# Altium footprint library Resistors.PcbLib: 3 footprints
Each footprint in its own frame and in the unit in brackets; x right, y up, seen from the top. Pads: shape width x height; smd on the part's side, far side on the other; paste and mask are expansions set on the pad; w line width, h text height; cw(c..) or ccw(c..) is an arc to the next point about the centre after c.
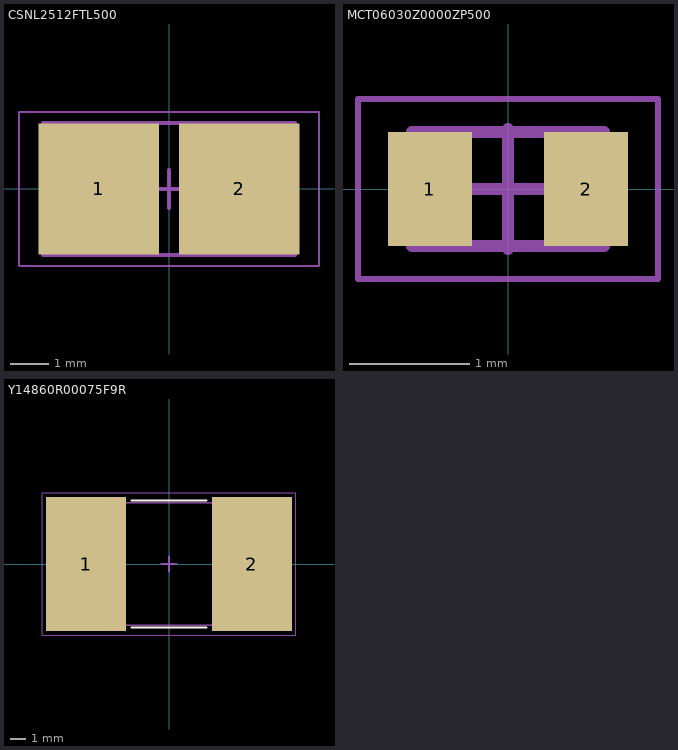
[diagram p0: the footprints below, top view; thin cyan lines are the x and y axes]

## CSNL2512FTL500 [mm] "0.5 mOhms ±1% 3W Chip Resistor 2512 (6332 Metric) Current Sense, Moisture Resistant Metal Element"
height 1.45
pads (2):
  rect 3.13x3.4 smd mask+0.07: 1(-1.825,0) 2(1.825,0)
Top Assembly:
  lines w0.1: -3.275,-1.715 -3.275,1.715 3.275,1.715 3.275,-1.715 -3.275,-1.715
  text ".Designator" at -2.252,-0.226 h1
Top Courtyard:
  lines w0.05: -3.9,-2 -3.9,2 3.9,2 3.9,-2 -3.9,-2
  lines w0.1: -0.5,0 0.5,0 ; 0,-0.5 0,0.5
3D body "RESC6432X14N.step": height 1.45, standoff 0, extent -3.275,-1.715 3.275,1.715

## MCT06030Z0000ZP500 [mm] "0 Ohms Jumper 0.1W, 1/10W Chip Resistor 0603 (1608 Metric) Anti-Sulfur Thin Film"
height 0.55
pads (2):
  rect 0.7x0.95 smd mask+0.07: 1(-0.65,0) 2(0.65,0)
Top Assembly:
  lines w0.1: -0.8,-0.475 -0.8,0.475 0.8,0.475 0.8,-0.475 -0.8,-0.475
  text ".Designator" at -0.674,-0.068 h0.3
Top Courtyard:
  lines w0.05: -1.25,-0.75 -1.25,0.75 1.25,0.75 1.25,-0.75 -1.25,-0.75
  lines w0.1: -0.5,0 0.5,0 ; 0,-0.5 0,0.5
3D body "RESC1608X06N.step": height 0.55, standoff 0, extent -0.8,-0.475 0.8,0.475

## Y14860R00075F9R [mm] "0.75 mOhms ±1% 10W Chip Resistor Nonstandard Automotive AEC-Q200, Current Sense, Non-Inductive Metal Element"
height 1.11
pads (2):
  rect 5.2x8.75 smd mask+0.05: 1(-5.397,0) 2(5.397,0)
Top Overlay:
  lines w0.127: -2.434,-4.127 2.434,-4.127 ; -2.434,4.127 2.434,4.127
Top Assembly:
  lines w0.1: -3.15,-4 -3.15,4 ; -3.15,-4 -7.645,-4 -7.645,4 -3.15,4 ; -3.15,-4 3.15,-4 ; -3.15,-4 -3.15,4 ; -3.15,4 3.15,4 ; 3.15,-4 3.15,4 ; 3.15,-4 7.645,-4 7.645,4 3.15,4 ; 3.15,-4 3.15,4
  text "'.Designator'" at -2.417,-0.226 h1
Top Courtyard:
  lines w0.05: -8.255,-4.632 8.255,-4.632 ; -8.255,-4.6 -8.255,4.6 ; -8.255,4.632 8.255,4.632 ; 8.255,-4.6 8.255,4.6
  lines w0.1: -0.5,0 0.5,0 ; 0,-0.5 0,0.5
3D body "RES_Y14860R00010F9R_VIS.step": height 2.7, standoff 0, extent -7.645,-4.001 7.645,4.001